# EAGLE library part MA14-1 (library all-connectors)
PIN HEADER
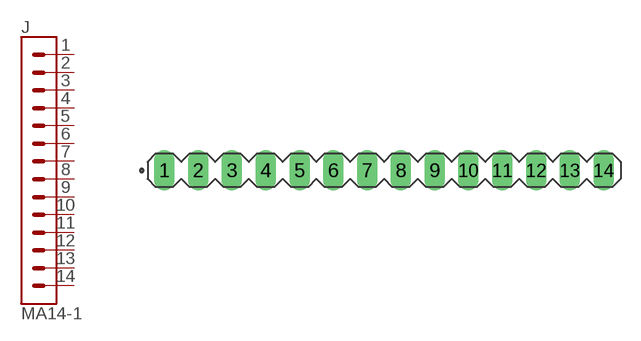
[diagram p8: symbol with the pads of MA14-1_TH_2.54MM; footprint MA14-1_TH_2.54MM]

Designator prefix J

## MA14-1_TH_2.54MM  [MA14-1_TH_2.54MM]
1  1  pas
2  2  pas
3  3  pas
4  4  pas
5  5  pas
6  6  pas
7  7  pas
8  8  pas
9  9  pas
10  10  pas
11  11  pas
12  12  pas
13  13  pas
14  14  pas

## Footprint MA14-1_TH_2.54MM (pad centres in mm)
PIN HEADER
drill 1.016 long: 1 -16.51,0; 2 -13.97,0; 3 -11.43,0; 4 -8.89,0; 5 -6.35,0; 6 -3.81,0; 7 -1.27,0; 8 1.27,0; 9 3.81,0; 10 6.35,0; 11 8.89,0; 12 11.43,0; 13 13.97,0; 14 16.51,0